# Altium schematic symbol library Flyback_lib.SchLib: 19 symbols
Pins are listed as number, name and electrical type; pins without a type are passive.

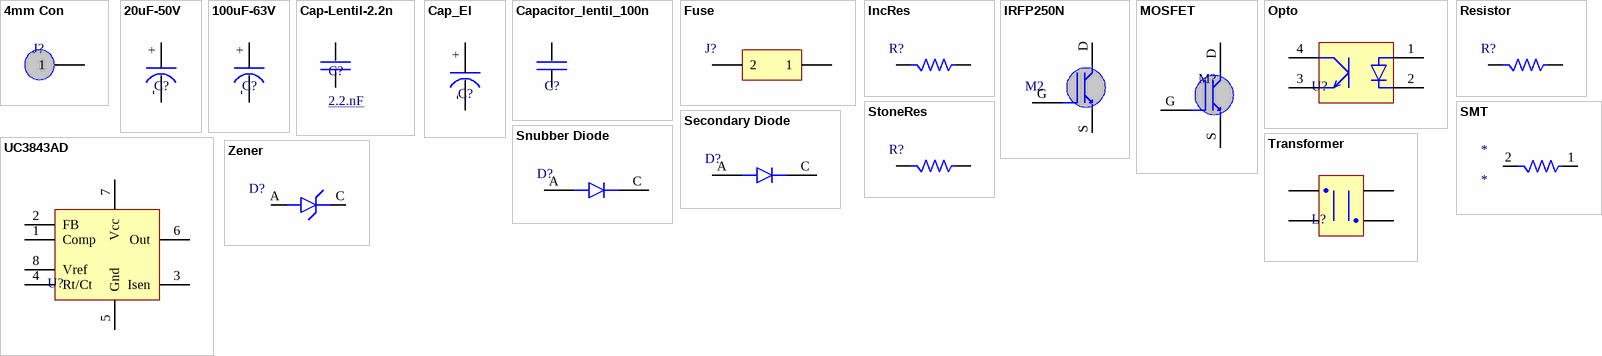
[diagram p0: symbols 4mm Con to Zener]

## 4mm Con
designator J?  (value not drawn)
footprint Con-4mm (J?)
pins: 1

## 20uF-50V
designator C?  (value not drawn)
footprint 20uF-50V
pins: +, -

## 100uF-63V
designator C?  (value not drawn)
footprint 100uF-63V
pins: +, -

## Cap-Lentil-2.2n
designator C?, comment 2.2.nF
footprint Cap-lentil-2.2n
pins: 1, 2

## Cap_El
designator C?  (value not drawn)
pins: +, -

## Capacitor_lentil_100n
designator C?  (value not drawn)
footprint Cap-lentil-100n (C?)
pins: 1, 2

## Fuse
designator J?  (value not drawn)
footprint Fuse Holder
pins: 1, 2

## IncRes
designator R?  (value not drawn)
footprint IncRes
pins: 1, 2

## IRFP250N
designator M2  (value not drawn)
footprint TO247 with Heatsink
pins: D, G, S

## MOSFET
designator M?  (value not drawn)
footprint MOSFET
pins: D, G, S

## Opto
designator U?  (value not drawn)
footprint Opto
pins: 1 A, 2 C, 3 E, 4 Col

## Resistor
designator R?  (value not drawn)
footprint Resistor (R?)
pins: 1, 2

## Secondary Diode
designator D?  (value not drawn)
footprint MBR10150
pins: A, C

## SMT
designator *
pins: 1, 2

## Snubber Diode
designator D?  (value not drawn)
footprint MBR10150
pins: A, C

## StoneRes
designator R?  (value not drawn)
footprint StoneRes-5W
pins: 1, 2

## Transformer
designator L?  (value not drawn)
footprint Transformer_EE3515
pins: 1, 2, 3, 4

## UC3843AD
designator U?  (value not drawn)
footprint UC3843AD
pins: 1 Comp, 2 FB, 3 Isen, 4 Rt/Ct, 5 Gnd, 6 Out, 7 Vcc, 8 Vref

## Zener
designator D?  (value not drawn)
footprint Zener
pins: A, C